# EAGLE library part TPS61236 (library ICs)
DC-DC Switching Sync-Boost (Step Up)Regulator, Adj, 2.3V-4.9Vin, 2.9V-5.5V/3.5A out, 1 MHz, WQFN-9
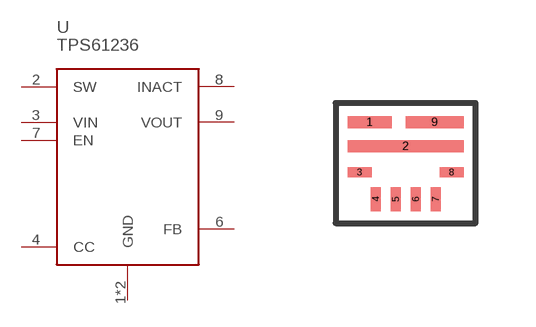
[diagram p122: symbol with the pads of VQFN9; footprint VQFN9]

Designator prefix U

## TPS61236RWLT (FARNELL: 2507105; HEIGHT: 1; PRICE_PER: 3.25; VALUE: TPS61236P)  [VQFN9]
1  GND
2  SW
3  VIN
4  CC
5  GND
6  FB
7  EN
8  INACT
9  VOUT

## Footprint VQFN9 (pad centres in mm)
smd 1.1 x 0.3: 1 -0.9,1.02
smd 2.9 x 0.3: 2 0,0.42
smd 0.6 x 0.25: 3 -1.15,-0.225; 8 1.15,-0.225
smd 0.25 x 0.6: 4 -0.75,-0.9; 5 -0.25,-0.9; 6 0.25,-0.9; 7 0.75,-0.9
smd 1.45 x 0.3: 9 0.725,1.02